# Altium footprint library SparkFun-IC-Special-Function.PCBLIB: 35 footprints (part 3 of 3)
Each footprint in its own frame and in the unit in brackets; x right, y up, seen from the top. Pads: shape width x height; smd on the part's side, far side on the other; paste and mask are expansions set on the pad; w line width, h text height; cw(c..) or ccw(c..) is an arc to the next point about the centre after c.
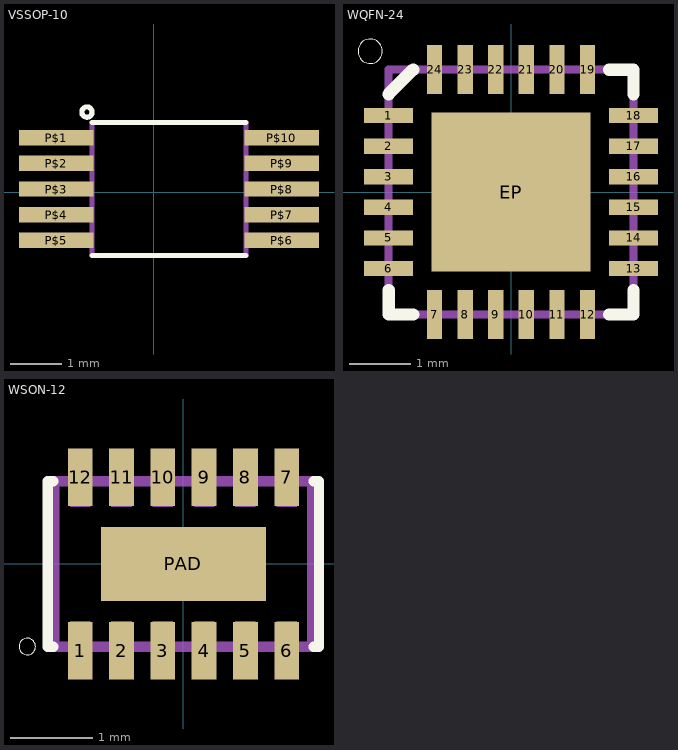
[diagram p2: the footprints below, top view; thin cyan lines are the x and y axes]

## VSSOP-10 [mil]
pads (10):
  rect 57.09x11.81 smd: P$1(-75,41.73) P$2(-75,22.05) P$3(-75,2.36) P$4(-75,-17.32) P$5(-75,-37.01) P$6(98.23,-37.01) P$7(98.23,-17.32) P$8(98.23,2.36) P$9(98.23,22.05) P$10(98.23,41.73)
Top Overlay:
  circle w3.94: c-51.38,61.42 r3.94
  lines w3.94: -47.44,-48.82 70.67,-48.82 ; -47.44,53.54 70.67,53.54
Mechanical 16:
  lines w3.94: -47.44,-48.82 -47.44,53.54 70.67,53.54 70.67,-48.82 -47.44,-48.82

## WQFN-24 [mil]
pads (25):
  rect 31.5x9.84 smd: 1(-78.74,49.21) 2(-78.74,29.53) 3(-78.74,9.84) 4(-78.74,-9.84) 5(-78.74,-29.53) 6(-78.74,-49.21) 13(78.74,-49.21) 14(78.74,-29.53) 15(78.74,-9.84) 16(78.74,9.84) 17(78.74,29.53) 18(78.74,49.21)
  rect 9.84x31.5 smd: 7(-49.21,-78.74) 8(-29.53,-78.74) 9(-9.84,-78.74) 10(9.84,-78.74) 11(29.53,-78.74) 12(49.21,-78.74) 19(49.21,78.74) 20(29.53,78.74) 21(9.84,78.74) 22(-9.84,78.74) 23(-29.53,78.74) 24(-49.21,78.74)
  rect 102.36x102.36 smd: EP(0,0)
Top Overlay:
  circle w0: c-90.55,90.55 r7.87
  lines w8: -78.74,-62.99 -78.74,-78.74 -62.99,-78.74 ; -78.74,62.99 -62.99,78.74 ; 62.99,-78.74 78.74,-78.74 78.74,-62.99 ; 62.99,78.74 78.74,78.74 78.74,62.99
Top Paste:
  rectangle: -39.37,7.87 -7.87,39.37
  rectangle: 7.87,7.87 39.37,39.37
  rectangle: 7.87,-39.37 39.37,-7.87
  rectangle: -39.37,-39.37 -7.87,-7.87
Mechanical 16:
  lines w5: -78.74,-78.74 -78.74,78.74 78.74,78.74 78.74,-78.74 -78.74,-78.74

## WSON-12 [mm]
pads (13):
  rect 0.3x0.7 smd: 1(-1.25,-1.05) 2(-0.75,-1.05) 3(-0.25,-1.05) 4(0.25,-1.05) 5(0.75,-1.05) 6(1.25,-1.05) 7(1.25,1.05) 8(0.75,1.05) 9(0.25,1.05) 10(-0.25,1.05) 11(-0.75,1.05) 12(-1.25,1.05)
  rect 2x0.9 smd: PAD(0,0)
Top Overlay:
  circle w0: c-1.892,-1 r0.1
  lines w0.127: -1.579,-1 -1.642,-1 -1.642,1 -1.579,1 ; 1.579,-1 1.642,-1 1.642,1 1.579,1
Top Paste:
  circle w0: c0.5,0 r0.4
  circle w0: c-0.5,0 r0.4
  rectangle: 0.125,0.813 0.375,1.375
  rectangle: -1.375,0.813 -1.125,1.375
  rectangle: -0.875,0.813 -0.625,1.375
  rectangle: -0.375,0.813 -0.125,1.375
  rectangle: 1.125,0.813 1.375,1.375
  rectangle: 0.625,0.813 0.875,1.375
  rectangle: -1.375,-1.375 -1.125,-0.813
  rectangle: -0.875,-1.375 -0.625,-0.813
  rectangle: -0.375,-1.375 -0.125,-0.813
  rectangle: 0.125,-1.375 0.375,-0.813
  rectangle: 1.125,-1.375 1.375,-0.813
  rectangle: 0.625,-1.375 0.875,-0.813
Mechanical 16:
  rectangle: -1.375,0.688 -1.125,1
  rectangle: -0.875,0.688 -0.625,1
  rectangle: -0.375,0.688 -0.125,1
  rectangle: 0.125,0.688 0.375,1
  rectangle: 0.625,0.688 0.875,1
  rectangle: 1.125,0.688 1.375,1
  region: -1.125,-0.688 -1.375,-0.688 -1.375,-1 -1.125,-1
  region: -0.625,-0.688 -0.875,-0.688 -0.875,-1 -0.625,-1
  region: -0.125,-0.688 -0.375,-0.688 -0.375,-1 -0.125,-1
  region: 0.375,-0.688 0.125,-0.688 0.125,-1 0.375,-1
  region: 0.875,-0.688 0.625,-0.688 0.625,-1 0.875,-1
  region: 1.375,-0.688 1.125,-0.688 1.125,-1 1.375,-1
  lines w0.127: -1.563,-1 1.563,-1 1.563,1 -1.563,1 -1.563,-1